# EAGLE library part 613020216921 (library Eagle_BOARD-TO-BOARD_CONNECTORS (rev18b))
WR-PHD 2.54mm Dual S. Header Bottom Entry Large, 20 Pins=>Code : Con_BTB_SHD_2.54_2_613020216921 <http://katalog.we-online.de/media/images/eican/Con_BTB_SHD_2.54_2_6130xx216921_pf2.jpg> Details see: http://katalog.we-online.de/en/em/613_0xx_216_921 Created 2014-05-30, Karrer Zheng 2014 (C) Würth Elektronik
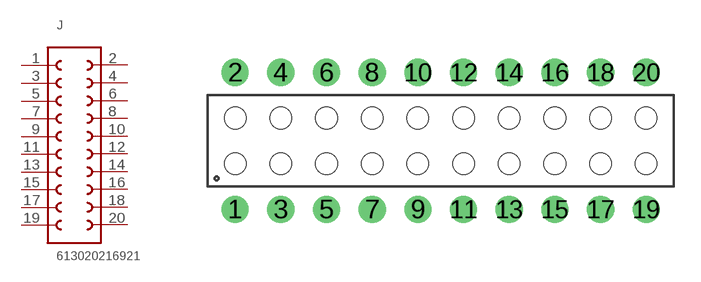
[diagram p170: symbol with the pads of 613020216921; footprint 613020216921]

Designator prefix J

## 613020216921  [613020216921]
1  1  pas
2  20  pas
3  2  pas
4  19  pas
5  3  pas
6  18  pas
7  4  pas
8  17  pas
9  5  pas
10  16  pas
11  6  pas
12  15  pas
13  7  pas
14  14  pas
15  8  pas
16  13  pas
17  9  pas
18  12  pas
19  10  pas
20  11  pas

## Footprint 613020216921 (pad centres in mm)
WR-PHD 2.54mm Dual S. Header Bottom Entry Large, 20 Pins
drill 1: 1 -11.43,-3.81; 2 -11.43,3.81; 3 -8.89,-3.81; 4 -8.89,3.81; 5 -6.35,-3.81; 6 -6.35,3.81; 7 -3.81,-3.81; 8 -3.81,3.81; 9 -1.27,-3.81; 10 -1.27,3.81; 11 1.27,-3.81; 12 1.27,3.81; 13 3.81,-3.81; 14 3.81,3.81; 15 6.35,-3.81; 16 6.35,3.81; 17 8.89,-3.81; 18 8.89,3.81; 19 11.43,-3.81; 20 11.43,3.81
hole 1.2 at -11.43,1.27
hole 1.2 at -8.89,1.27
hole 1.2 at -8.89,-1.27
hole 1.2 at -11.43,-1.27
hole 1.2 at -6.35,1.27
hole 1.2 at -6.35,-1.27
hole 1.2 at -3.81,-1.27
hole 1.2 at -3.81,1.27
hole 1.2 at -1.27,1.27
hole 1.2 at -1.27,-1.27
hole 1.2 at 1.27,-1.27
hole 1.2 at 1.27,1.27
hole 1.2 at 3.81,1.27
hole 1.2 at 6.35,1.27
hole 1.2 at 3.81,-1.27
hole 1.2 at 6.35,-1.27
hole 1.2 at 8.89,1.27
hole 1.2 at 8.89,-1.27
hole 1.2 at 11.43,1.27
hole 1.2 at 11.43,-1.27